# EAGLE library part SLG46538M (library GREENPAK)
GreenPAK5 SLG46538M Silego Technology www.silego.com
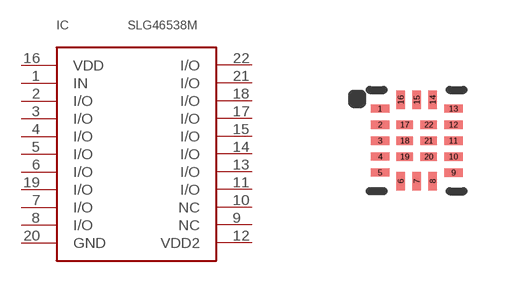
[diagram p24: symbol with the pads of MSTQFN-22-2.0X2.2_N; footprint MSTQFN-22-2.0X2.2_N]

Designator prefix IC

## SLG46538M  [MSTQFN-22-2.0X2.2_N]
1  IN
2  I/O
3  I/O
4  I/O
5  I/O
6  I/O
7  I/O
8  I/O
9  NC
10  NC
11  I/O
12  VDD2  pwr
13  I/O
14  I/O
15  I/O
16  VDD  pwr
17  I/O
18  I/O
19  I/O
20  GND  pwr
21  I/O
22  I/O

## Footprint MSTQFN-22-2.0X2.2_N (pad centres in mm)
smd 0.465 x 0.21: 1 -0.918,0.8; 2 -0.918,0.4; 3 -0.918,0; 4 -0.918,-0.4; 5 -0.918,-0.8; 9 0.918,-0.8; 10 0.918,-0.4; 11 0.918,0; 12 0.918,0.4; 13 0.918,0.8
smd 0.21 x 0.465: 6 -0.4,-1.02; 7 0,-1.02; 8 0.4,-1.02; 14 0.4,1.02; 15 0,1.02; 16 -0.4,1.02
smd 0.41 x 0.21: 17 -0.3,0.4; 18 -0.3,0; 19 -0.3,-0.4; 20 0.3,-0.4; 21 0.3,0; 22 0.3,0.4